# EAGLE library part ESP32-38-32-L (library JLB6_Processor)
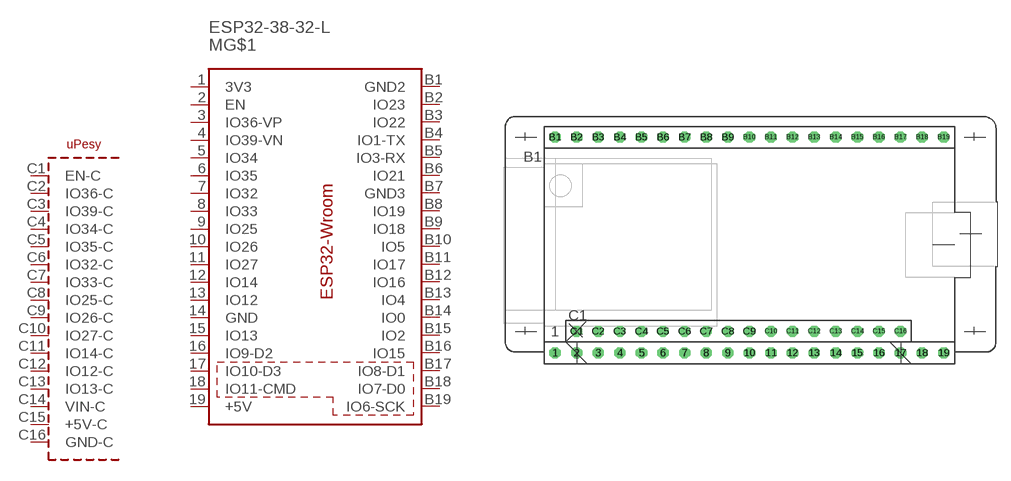
[diagram p37: symbol with the pads of ESP32-38P-32P-L; footprint ESP32-38P-32P-L]

Designator prefix M; gates G$1=ESP32-WROOM-32UE_KIT G$2=ESP32-EXT-16L

## ESP32-38-32-L  [ESP32-38P-32P-L]
1  G$1:3V3  pas
2  G$1:EN
3  G$1:IO36-VP
4  G$1:IO39-VN
5  G$1:IO34
6  G$1:IO35
7  G$1:IO32
8  G$1:IO33
9  G$1:IO25
10  G$1:IO26
11  G$1:IO27
12  G$1:IO14
13  G$1:IO12
14  G$1:GND  pwr
15  G$1:IO13
16  G$1:IO9-D2
17  G$1:IO10-D3  nc
18  G$1:IO11-CMD  nc
19  G$1:+5V  pas
B1  G$1:GND2  pwr
B2  G$1:IO23
B3  G$1:IO22
B4  G$1:IO1-TX
B5  G$1:IO3-RX
B6  G$1:IO21
B7  G$1:GND3  pwr
B8  G$1:IO19
B9  G$1:IO18
B10  G$1:IO5
B11  G$1:IO17
B12  G$1:IO16
B13  G$1:IO4
B14  G$1:IO0
B15  G$1:IO2
B16  G$1:IO15
B17  G$1:IO8-D1  nc
B18  G$1:IO7-D0  nc
B19  G$1:IO6-SCK  nc
C1  G$2:EN-C  nc
C2  G$2:IO36-C
C3  G$2:IO39-C
C4  G$2:IO34-C
C5  G$2:IO35-C
C6  G$2:IO32-C
C7  G$2:IO33-C
C8  G$2:IO25-C
C9  G$2:IO26-C
C10  G$2:IO27-C
C11  G$2:IO14-C  pwr
C12  G$2:IO12-C
C13  G$2:IO13-C
C14  G$2:VIN-C
C15  G$2:+5V-C
C16  G$2:GND-C

## Footprint ESP32-38P-32P-L (pad centres in mm)
drill 0.813 octagon: 1 0,0; 2 2.54,0; 3 5.08,0; 4 7.62,0; 5 10.16,0; 6 12.7,0; 7 15.24,0; 8 17.78,0; 9 20.32,0; 10 22.86,0; 11 25.4,0; 12 27.94,0; 13 30.48,0; 14 33.02,0; 15 35.56,0; 16 38.1,0; 17 40.64,0; 18 43.18,0; 19 45.72,0; B1 0,25.4; B2 2.54,25.4; B3 5.08,25.4; B4 7.62,25.4; B5 10.16,25.4; B6 12.7,25.4; B7 15.24,25.4; B8 17.78,25.4; B9 20.32,25.4; B10 22.86,25.4; B11 25.4,25.4; B12 27.94,25.4; B13 30.48,25.4; B14 33.02,25.4; B15 35.56,25.4; B16 38.1,25.4; B17 40.64,25.4; B18 43.18,25.4; B19 45.72,25.4; C1 2.54,2.54; C2 5.08,2.54; C3 7.62,2.54; C4 10.16,2.54; C5 12.7,2.54; C6 15.24,2.54; C7 17.78,2.54; C8 20.32,2.54; C9 22.86,2.54; C10 25.4,2.54; C11 27.94,2.54; C12 30.48,2.54; C13 33.02,2.54; C14 35.56,2.54; C15 38.1,2.54; C16 40.64,2.54